# Altium footprint library Real-Time Clocks (RTCs).PcbLib: 185 footprints (part 3 of 12)
Each footprint in its own frame and in the unit in brackets; x right, y up, seen from the top. Pads: shape width x height; smd on the part's side, far side on the other; paste and mask are expansions set on the pad; w line width, h text height; cw(c..) or ccw(c..) is an arc to the next point about the centre after c.
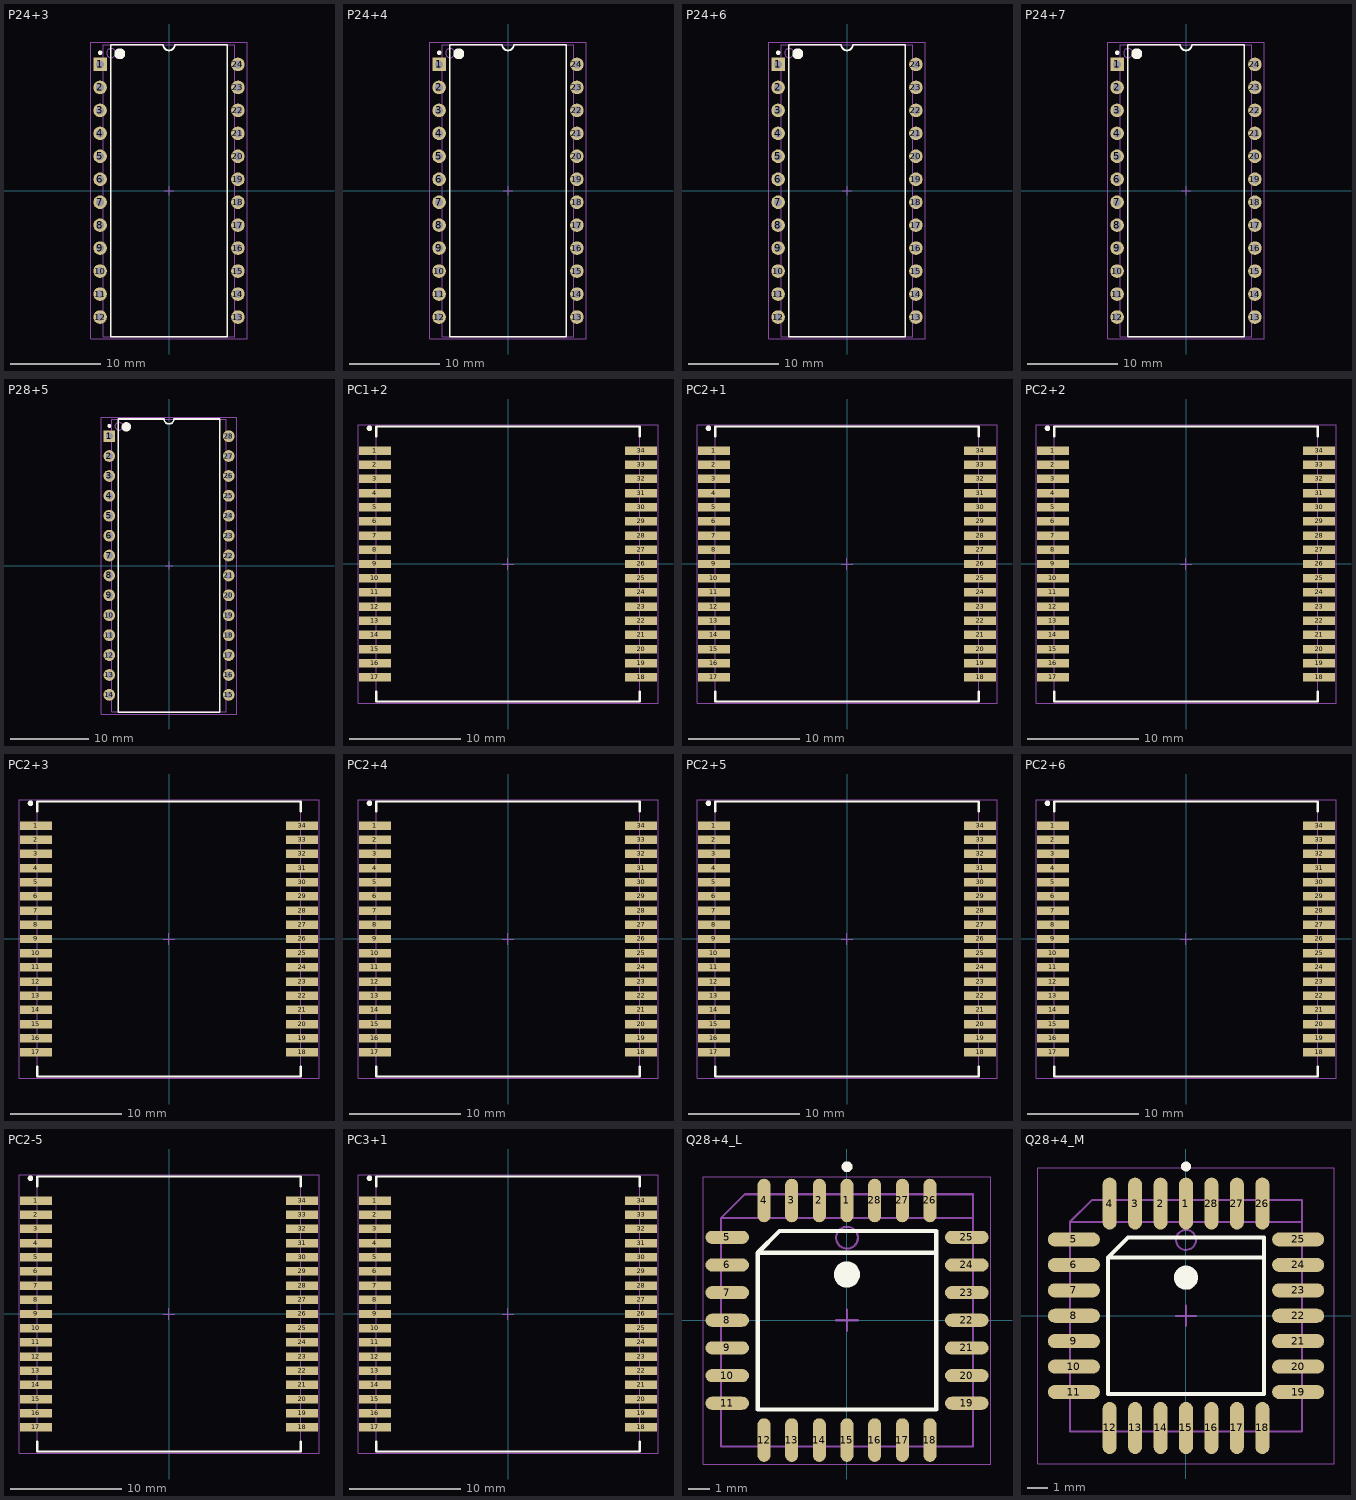
[diagram p2: the footprints below, top view; thin cyan lines are the x and y axes]

## P24+3 [mm] "DIP, 24-Leads, Row Spacing 15.24mm, Pitch 2.54mm, Body 31.8x14mm"
height 5.08
pads (24):
  rect 1.5x1.5 hole 0.9: 1(-7.62,13.97)
  round 1.5 hole 0.9: 2(-7.62,11.43) 3(-7.62,8.89) 4(-7.62,6.35) 5(-7.62,3.81) 6(-7.62,1.27) 7(-7.62,-1.27) 8(-7.62,-3.81) 9(-7.62,-6.35) 10(-7.62,-8.89) 11(-7.62,-11.43) 12(-7.62,-13.97) 13(7.62,-13.97) 14(7.62,-11.43) 15(7.62,-8.89) 16(7.62,-6.35) 17(7.62,-3.81) 18(7.62,-1.27) 19(7.62,1.27) 20(7.62,3.81) 21(7.62,6.35) 22(7.62,8.89) 23(7.62,11.43) 24(7.62,13.97)
Top Overlay:
  circle w0.25: c-7.62,15.27 r0.125
  circle w0.6: c-5.45,15.15 r0.3
  lines w0.2: -6.45,-16.15 -6.45,16.15 -0.635,16.15 ccw(c0,16.15) 0.635,16.15 6.45,16.15 6.45,-16.15 -6.45,-16.15
Mechanical 13:
  circle w0.1: c-6.4,15.225 r0.5
  lines w0.1: -7.3,-16.125 -7.3,16.125 7.3,16.125 7.3,-16.125 -7.3,-16.125
Mechanical 15:
  lines w0.05: -8.65,-16.4 -8.65,16.4 8.65,16.4 8.65,-16.4 -8.65,-16.4
  lines w0.1: -0.5,0 0.5,0 ; 0,-0.5 0,0.5
3D body: height 5.08, standoff 0.39, extent -7.3,-16.125 7.3,16.125

## P24+4 [mm] "DIP, 24-Leads, Row Spacing 15.24mm, Pitch 2.54mm, Body 31.8x14mm"
height 5.08
pads (24):
  rect 1.5x1.5 hole 0.9: 1(-7.62,13.97)
  round 1.5 hole 0.9: 2(-7.62,11.43) 3(-7.62,8.89) 4(-7.62,6.35) 5(-7.62,3.81) 6(-7.62,1.27) 7(-7.62,-1.27) 8(-7.62,-3.81) 9(-7.62,-6.35) 10(-7.62,-8.89) 11(-7.62,-11.43) 12(-7.62,-13.97) 13(7.62,-13.97) 14(7.62,-11.43) 15(7.62,-8.89) 16(7.62,-6.35) 17(7.62,-3.81) 18(7.62,-1.27) 19(7.62,1.27) 20(7.62,3.81) 21(7.62,6.35) 22(7.62,8.89) 23(7.62,11.43) 24(7.62,13.97)
Top Overlay:
  circle w0.6: c-5.45,15.15 r0.3
  circle w0.25: c-7.62,15.27 r0.125
  lines w0.2: -6.45,-16.15 6.45,-16.15 6.45,16.15 0.635,16.15 cw(c0,16.15) -0.635,16.15 -6.45,16.15 -6.45,-16.15
Mechanical 13:
  circle w0.1: c-6.4,15.225 r0.5
  lines w0.1: -7.3,-16.125 7.3,-16.125 7.3,16.125 -7.3,16.125 -7.3,-16.125
Mechanical 15:
  lines w0.05: -8.65,-16.4 8.65,-16.4 8.65,16.4 -8.65,16.4 -8.65,-16.4
  lines w0.1: -0.5,0 0.5,0 ; 0,-0.5 0,0.5
3D body: height 5.08, standoff 0.39, extent -7.3,-16.125 7.3,16.125

## P24+6 [mm] "DIP, 24-Leads, Row Spacing 15.24mm, Pitch 2.54mm, Body 31.8x14mm"
height 5.08
pads (24):
  rect 1.5x1.5 hole 0.9: 1(-7.62,13.97)
  round 1.5 hole 0.9: 2(-7.62,11.43) 3(-7.62,8.89) 4(-7.62,6.35) 5(-7.62,3.81) 6(-7.62,1.27) 7(-7.62,-1.27) 8(-7.62,-3.81) 9(-7.62,-6.35) 10(-7.62,-8.89) 11(-7.62,-11.43) 12(-7.62,-13.97) 13(7.62,-13.97) 14(7.62,-11.43) 15(7.62,-8.89) 16(7.62,-6.35) 17(7.62,-3.81) 18(7.62,-1.27) 19(7.62,1.27) 20(7.62,3.81) 21(7.62,6.35) 22(7.62,8.89) 23(7.62,11.43) 24(7.62,13.97)
Top Overlay:
  circle w0.25: c-7.62,15.27 r0.125
  circle w0.6: c-5.45,15.15 r0.3
  lines w0.2: -6.45,-16.15 -6.45,16.15 -0.635,16.15 ccw(c0,16.15) 0.635,16.15 6.45,16.15 6.45,-16.15 -6.45,-16.15
Mechanical 13:
  circle w0.1: c-6.4,15.225 r0.5
  lines w0.1: -7.3,-16.125 -7.3,16.125 7.3,16.125 7.3,-16.125 -7.3,-16.125
Mechanical 15:
  lines w0.05: -8.65,-16.4 -8.65,16.4 8.65,16.4 8.65,-16.4 -8.65,-16.4
  lines w0.1: -0.5,0 0.5,0 ; 0,-0.5 0,0.5
3D body: height 5.08, standoff 0.39, extent -7.3,-16.125 7.3,16.125

## P24+7 [mm] "DIP, 24-Leads, Row Spacing 15.24mm, Pitch 2.54mm, Body 31.8x14mm"
height 5.08
pads (24):
  rect 1.5x1.5 hole 0.9: 1(-7.62,13.97)
  round 1.5 hole 0.9: 2(-7.62,11.43) 3(-7.62,8.89) 4(-7.62,6.35) 5(-7.62,3.81) 6(-7.62,1.27) 7(-7.62,-1.27) 8(-7.62,-3.81) 9(-7.62,-6.35) 10(-7.62,-8.89) 11(-7.62,-11.43) 12(-7.62,-13.97) 13(7.62,-13.97) 14(7.62,-11.43) 15(7.62,-8.89) 16(7.62,-6.35) 17(7.62,-3.81) 18(7.62,-1.27) 19(7.62,1.27) 20(7.62,3.81) 21(7.62,6.35) 22(7.62,8.89) 23(7.62,11.43) 24(7.62,13.97)
Top Overlay:
  circle w0.6: c-5.45,15.15 r0.3
  circle w0.25: c-7.62,15.27 r0.125
  lines w0.2: -6.45,-16.15 6.45,-16.15 6.45,16.15 0.635,16.15 cw(c0,16.15) -0.635,16.15 -6.45,16.15 -6.45,-16.15
Mechanical 13:
  circle w0.1: c-6.4,15.225 r0.5
  lines w0.1: -7.3,-16.125 7.3,-16.125 7.3,16.125 -7.3,16.125 -7.3,-16.125
Mechanical 15:
  lines w0.05: -8.65,-16.4 8.65,-16.4 8.65,16.4 -8.65,16.4 -8.65,-16.4
  lines w0.1: -0.5,0 0.5,0 ; 0,-0.5 0,0.5
3D body: height 5.08, standoff 0.39, extent -7.3,-16.125 7.3,16.125

## P28+5 [mm] "DIP, 28-Leads, Row Spacing 15.24mm, Pitch 2.54mm, Body 36.8x14mm"
height 5.08
pads (28):
  rect 1.5x1.5 hole 0.9: 1(-7.62,16.51)
  round 1.5 hole 0.9: 2(-7.62,13.97) 3(-7.62,11.43) 4(-7.62,8.89) 5(-7.62,6.35) 6(-7.62,3.81) 7(-7.62,1.27) 8(-7.62,-1.27) 9(-7.62,-3.81) 10(-7.62,-6.35) 11(-7.62,-8.89) 12(-7.62,-11.43) 13(-7.62,-13.97) 14(-7.62,-16.51) 15(7.62,-16.51) 16(7.62,-13.97) 17(7.62,-11.43) 18(7.62,-8.89) 19(7.62,-6.35) 20(7.62,-3.81) 21(7.62,-1.27) 22(7.62,1.27) 23(7.62,3.81) 24(7.62,6.35) 25(7.62,8.89) 26(7.62,11.43) 27(7.62,13.97) 28(7.62,16.51)
Top Overlay:
  circle w0.6: c-5.45,17.7 r0.3
  circle w0.25: c-7.62,17.81 r0.125
  lines w0.2: -6.45,-18.7 6.45,-18.7 6.45,18.7 0.635,18.7 cw(c0,18.7) -0.635,18.7 -6.45,18.7 -6.45,-18.7
Mechanical 13:
  circle w0.1: c-6.4,17.775 r0.5
  lines w0.1: -7.3,-18.675 7.3,-18.675 7.3,18.675 -7.3,18.675 -7.3,-18.675
Mechanical 15:
  lines w0.05: -8.65,-18.95 8.65,-18.95 8.65,18.95 -8.65,18.95 -8.65,-18.95
  lines w0.1: -0.5,0 0.5,0 ; 0,-0.5 0,0.5
3D body: height 5.08, standoff 0.39, extent -7.3,-18.675 7.3,18.675

## PC1+2 [mm] "PowerCap Module with Cap, 34-Leads, Body 24.7 x.25.3mm, Pitch 1.27mm"
height 6.86
pads (34):
  rect 2.84x0.76 smd: 1(-11.915,10.16) 2(-11.915,8.89) 3(-11.915,7.62) 4(-11.915,6.35) 5(-11.915,5.08) 6(-11.915,3.81) 7(-11.915,2.54) 8(-11.915,1.27) 9(-11.915,0) 10(-11.915,-1.27) 11(-11.915,-2.54) 12(-11.915,-3.81) 13(-11.915,-5.08) 14(-11.915,-6.35) 15(-11.915,-7.62) 16(-11.915,-8.89) 17(-11.915,-10.16) 18(11.915,-10.16) 19(11.915,-8.89) 20(11.915,-7.62) 21(11.915,-6.35) 22(11.915,-5.08) 23(11.915,-3.81) 24(11.915,-2.54) 25(11.915,-1.27) 26(11.915,0) 27(11.915,1.27) 28(11.915,2.54) 29(11.915,3.81) 30(11.915,5.08) 31(11.915,6.35) 32(11.915,7.62) 33(11.915,8.89) 34(11.915,10.16)
Top Overlay:
  circle w0.25: c-12.41,12.16 r0.125
  lines w0.2: -11.8,-11.45 -11.8,-12.31 11.8,-12.31 11.8,-11.45 ; -11.8,11.45 -11.8,12.31 11.8,12.31 11.8,11.45
Mechanical 13:
  lines w0.1: -11.81,-12.32 11.81,-12.32 ; -11.81,-12.32 -11.81,12.32 11.81,12.32 11.81,-12.32 ; -11.81,-12.32 11.81,-12.32
Mechanical 15:
  lines w0.05: -13.435,-12.46 13.435,-12.46 13.435,12.46 -13.435,12.46 -13.435,-12.46
  lines w0.1: -0.5,0 0.5,0 ; 0,-0.5 0,0.5
3D body: height 6.86, standoff 0, extent -11.809,-12.319 11.809,12.319

## PC2+1 [mm] "PowerCap Module with Cap, 34-Leads, Body 24.7 x.25.3mm, Pitch 1.27mm"
height 6.86
pads (34):
  rect 2.84x0.76 smd: 1(-11.915,10.16) 2(-11.915,8.89) 3(-11.915,7.62) 4(-11.915,6.35) 5(-11.915,5.08) 6(-11.915,3.81) 7(-11.915,2.54) 8(-11.915,1.27) 9(-11.915,0) 10(-11.915,-1.27) 11(-11.915,-2.54) 12(-11.915,-3.81) 13(-11.915,-5.08) 14(-11.915,-6.35) 15(-11.915,-7.62) 16(-11.915,-8.89) 17(-11.915,-10.16) 18(11.915,-10.16) 19(11.915,-8.89) 20(11.915,-7.62) 21(11.915,-6.35) 22(11.915,-5.08) 23(11.915,-3.81) 24(11.915,-2.54) 25(11.915,-1.27) 26(11.915,0) 27(11.915,1.27) 28(11.915,2.54) 29(11.915,3.81) 30(11.915,5.08) 31(11.915,6.35) 32(11.915,7.62) 33(11.915,8.89) 34(11.915,10.16)
Top Overlay:
  circle w0.25: c-12.41,12.16 r0.125
  lines w0.2: -11.8,-11.45 -11.8,-12.31 11.8,-12.31 11.8,-11.45 ; -11.8,11.45 -11.8,12.31 11.8,12.31 11.8,11.45
Mechanical 13:
  lines w0.1: -11.81,-12.32 11.81,-12.32 ; -11.81,-12.32 -11.81,12.32 11.81,12.32 11.81,-12.32 ; -11.81,-12.32 11.81,-12.32
Mechanical 15:
  lines w0.05: -13.435,-12.46 13.435,-12.46 13.435,12.46 -13.435,12.46 -13.435,-12.46
  lines w0.1: -0.5,0 0.5,0 ; 0,-0.5 0,0.5
3D body: height 6.86, standoff 0, extent -11.809,-12.319 11.809,12.319

## PC2+2 [mm] "PowerCap Module with Cap, 34-Leads, Body 24.7 x.25.3mm, Pitch 1.27mm"
height 6.86
pads (34):
  rect 2.84x0.76 smd: 1(-11.915,10.16) 2(-11.915,8.89) 3(-11.915,7.62) 4(-11.915,6.35) 5(-11.915,5.08) 6(-11.915,3.81) 7(-11.915,2.54) 8(-11.915,1.27) 9(-11.915,0) 10(-11.915,-1.27) 11(-11.915,-2.54) 12(-11.915,-3.81) 13(-11.915,-5.08) 14(-11.915,-6.35) 15(-11.915,-7.62) 16(-11.915,-8.89) 17(-11.915,-10.16) 18(11.915,-10.16) 19(11.915,-8.89) 20(11.915,-7.62) 21(11.915,-6.35) 22(11.915,-5.08) 23(11.915,-3.81) 24(11.915,-2.54) 25(11.915,-1.27) 26(11.915,0) 27(11.915,1.27) 28(11.915,2.54) 29(11.915,3.81) 30(11.915,5.08) 31(11.915,6.35) 32(11.915,7.62) 33(11.915,8.89) 34(11.915,10.16)
Top Overlay:
  circle w0.25: c-12.41,12.16 r0.125
  lines w0.2: -11.8,-11.45 -11.8,-12.31 11.8,-12.31 11.8,-11.45 ; -11.8,11.45 -11.8,12.31 11.8,12.31 11.8,11.45
Mechanical 13:
  lines w0.1: -11.81,-12.32 11.81,-12.32 ; -11.81,-12.32 -11.81,12.32 11.81,12.32 11.81,-12.32 ; -11.81,-12.32 11.81,-12.32
Mechanical 15:
  lines w0.05: -13.435,-12.46 13.435,-12.46 13.435,12.46 -13.435,12.46 -13.435,-12.46
  lines w0.1: -0.5,0 0.5,0 ; 0,-0.5 0,0.5
3D body: height 6.86, standoff 0, extent -11.809,-12.319 11.809,12.319

## PC2+3 [mm] "PowerCap Module with Cap, 34-Leads, Body 24.7 x.25.3mm, Pitch 1.27mm"
height 6.86
pads (34):
  rect 2.84x0.76 smd: 1(-11.915,10.16) 2(-11.915,8.89) 3(-11.915,7.62) 4(-11.915,6.35) 5(-11.915,5.08) 6(-11.915,3.81) 7(-11.915,2.54) 8(-11.915,1.27) 9(-11.915,0) 10(-11.915,-1.27) 11(-11.915,-2.54) 12(-11.915,-3.81) 13(-11.915,-5.08) 14(-11.915,-6.35) 15(-11.915,-7.62) 16(-11.915,-8.89) 17(-11.915,-10.16) 18(11.915,-10.16) 19(11.915,-8.89) 20(11.915,-7.62) 21(11.915,-6.35) 22(11.915,-5.08) 23(11.915,-3.81) 24(11.915,-2.54) 25(11.915,-1.27) 26(11.915,0) 27(11.915,1.27) 28(11.915,2.54) 29(11.915,3.81) 30(11.915,5.08) 31(11.915,6.35) 32(11.915,7.62) 33(11.915,8.89) 34(11.915,10.16)
Top Overlay:
  circle w0.25: c-12.41,12.16 r0.125
  lines w0.2: -11.8,-11.45 -11.8,-12.31 11.8,-12.31 11.8,-11.45 ; -11.8,11.45 -11.8,12.31 11.8,12.31 11.8,11.45
Mechanical 13:
  lines w0.1: -11.81,-12.32 11.81,-12.32 ; -11.81,-12.32 -11.81,12.32 11.81,12.32 11.81,-12.32 ; -11.81,-12.32 11.81,-12.32
Mechanical 15:
  lines w0.05: -13.435,-12.46 13.435,-12.46 13.435,12.46 -13.435,12.46 -13.435,-12.46
  lines w0.1: -0.5,0 0.5,0 ; 0,-0.5 0,0.5
3D body: height 6.86, standoff 0, extent -11.809,-12.319 11.809,12.319

## PC2+4 [mm] "PowerCap Module with Cap, 34-Leads, Body 24.7 x.25.3mm, Pitch 1.27mm"
height 6.86
pads (34):
  rect 2.84x0.76 smd: 1(-11.915,10.16) 2(-11.915,8.89) 3(-11.915,7.62) 4(-11.915,6.35) 5(-11.915,5.08) 6(-11.915,3.81) 7(-11.915,2.54) 8(-11.915,1.27) 9(-11.915,0) 10(-11.915,-1.27) 11(-11.915,-2.54) 12(-11.915,-3.81) 13(-11.915,-5.08) 14(-11.915,-6.35) 15(-11.915,-7.62) 16(-11.915,-8.89) 17(-11.915,-10.16) 18(11.915,-10.16) 19(11.915,-8.89) 20(11.915,-7.62) 21(11.915,-6.35) 22(11.915,-5.08) 23(11.915,-3.81) 24(11.915,-2.54) 25(11.915,-1.27) 26(11.915,0) 27(11.915,1.27) 28(11.915,2.54) 29(11.915,3.81) 30(11.915,5.08) 31(11.915,6.35) 32(11.915,7.62) 33(11.915,8.89) 34(11.915,10.16)
Top Overlay:
  circle w0.25: c-12.41,12.16 r0.125
  lines w0.2: -11.8,-11.45 -11.8,-12.31 11.8,-12.31 11.8,-11.45 ; -11.8,11.45 -11.8,12.31 11.8,12.31 11.8,11.45
Mechanical 13:
  lines w0.1: -11.81,-12.32 11.81,-12.32 ; -11.81,-12.32 -11.81,12.32 11.81,12.32 11.81,-12.32 ; -11.81,-12.32 11.81,-12.32
Mechanical 15:
  lines w0.05: -13.435,-12.46 13.435,-12.46 13.435,12.46 -13.435,12.46 -13.435,-12.46
  lines w0.1: -0.5,0 0.5,0 ; 0,-0.5 0,0.5
3D body: height 6.86, standoff 0, extent -11.809,-12.319 11.809,12.319

## PC2+5 [mm] "PowerCap Module with Cap, 34-Leads, Body 24.7 x.25.3mm, Pitch 1.27mm"
height 6.86
pads (34):
  rect 2.84x0.76 smd: 1(-11.915,10.16) 2(-11.915,8.89) 3(-11.915,7.62) 4(-11.915,6.35) 5(-11.915,5.08) 6(-11.915,3.81) 7(-11.915,2.54) 8(-11.915,1.27) 9(-11.915,0) 10(-11.915,-1.27) 11(-11.915,-2.54) 12(-11.915,-3.81) 13(-11.915,-5.08) 14(-11.915,-6.35) 15(-11.915,-7.62) 16(-11.915,-8.89) 17(-11.915,-10.16) 18(11.915,-10.16) 19(11.915,-8.89) 20(11.915,-7.62) 21(11.915,-6.35) 22(11.915,-5.08) 23(11.915,-3.81) 24(11.915,-2.54) 25(11.915,-1.27) 26(11.915,0) 27(11.915,1.27) 28(11.915,2.54) 29(11.915,3.81) 30(11.915,5.08) 31(11.915,6.35) 32(11.915,7.62) 33(11.915,8.89) 34(11.915,10.16)
Top Overlay:
  circle w0.25: c-12.41,12.16 r0.125
  lines w0.2: -11.8,-11.45 -11.8,-12.31 11.8,-12.31 11.8,-11.45 ; -11.8,11.45 -11.8,12.31 11.8,12.31 11.8,11.45
Mechanical 13:
  lines w0.1: -11.81,-12.32 11.81,-12.32 ; -11.81,-12.32 -11.81,12.32 11.81,12.32 11.81,-12.32 ; -11.81,-12.32 11.81,-12.32
Mechanical 15:
  lines w0.05: -13.435,-12.46 13.435,-12.46 13.435,12.46 -13.435,12.46 -13.435,-12.46
  lines w0.1: -0.5,0 0.5,0 ; 0,-0.5 0,0.5
3D body: height 6.86, standoff 0, extent -11.809,-12.319 11.809,12.319

## PC2+6 [mm] "PowerCap Module with Cap, 34-Leads, Body 24.7 x.25.3mm, Pitch 1.27mm"
height 6.86
pads (34):
  rect 2.84x0.76 smd: 1(-11.915,10.16) 2(-11.915,8.89) 3(-11.915,7.62) 4(-11.915,6.35) 5(-11.915,5.08) 6(-11.915,3.81) 7(-11.915,2.54) 8(-11.915,1.27) 9(-11.915,0) 10(-11.915,-1.27) 11(-11.915,-2.54) 12(-11.915,-3.81) 13(-11.915,-5.08) 14(-11.915,-6.35) 15(-11.915,-7.62) 16(-11.915,-8.89) 17(-11.915,-10.16) 18(11.915,-10.16) 19(11.915,-8.89) 20(11.915,-7.62) 21(11.915,-6.35) 22(11.915,-5.08) 23(11.915,-3.81) 24(11.915,-2.54) 25(11.915,-1.27) 26(11.915,0) 27(11.915,1.27) 28(11.915,2.54) 29(11.915,3.81) 30(11.915,5.08) 31(11.915,6.35) 32(11.915,7.62) 33(11.915,8.89) 34(11.915,10.16)
Top Overlay:
  circle w0.25: c-12.41,12.16 r0.125
  lines w0.2: -11.8,-11.45 -11.8,-12.31 11.8,-12.31 11.8,-11.45 ; -11.8,11.45 -11.8,12.31 11.8,12.31 11.8,11.45
Mechanical 13:
  lines w0.1: -11.81,-12.32 11.81,-12.32 ; -11.81,-12.32 -11.81,12.32 11.81,12.32 11.81,-12.32 ; -11.81,-12.32 11.81,-12.32
Mechanical 15:
  lines w0.05: -13.435,-12.46 13.435,-12.46 13.435,12.46 -13.435,12.46 -13.435,-12.46
  lines w0.1: -0.5,0 0.5,0 ; 0,-0.5 0,0.5
3D body: height 6.86, standoff 0, extent -11.809,-12.319 11.809,12.319

## PC2-5 [mm] "PowerCap Module with Cap, 34-Leads, Body 24.7 x.25.3mm, Pitch 1.27mm"
height 6.86
pads (34):
  rect 2.84x0.76 smd: 1(-11.915,10.16) 2(-11.915,8.89) 3(-11.915,7.62) 4(-11.915,6.35) 5(-11.915,5.08) 6(-11.915,3.81) 7(-11.915,2.54) 8(-11.915,1.27) 9(-11.915,0) 10(-11.915,-1.27) 11(-11.915,-2.54) 12(-11.915,-3.81) 13(-11.915,-5.08) 14(-11.915,-6.35) 15(-11.915,-7.62) 16(-11.915,-8.89) 17(-11.915,-10.16) 18(11.915,-10.16) 19(11.915,-8.89) 20(11.915,-7.62) 21(11.915,-6.35) 22(11.915,-5.08) 23(11.915,-3.81) 24(11.915,-2.54) 25(11.915,-1.27) 26(11.915,0) 27(11.915,1.27) 28(11.915,2.54) 29(11.915,3.81) 30(11.915,5.08) 31(11.915,6.35) 32(11.915,7.62) 33(11.915,8.89) 34(11.915,10.16)
Top Overlay:
  circle w0.25: c-12.41,12.16 r0.125
  lines w0.2: -11.8,-11.45 -11.8,-12.31 11.8,-12.31 11.8,-11.45 ; -11.8,11.45 -11.8,12.31 11.8,12.31 11.8,11.45
Mechanical 13:
  lines w0.1: -11.81,-12.32 11.81,-12.32 ; -11.81,-12.32 -11.81,12.32 11.81,12.32 11.81,-12.32 ; -11.81,-12.32 11.81,-12.32
Mechanical 15:
  lines w0.05: -13.435,-12.46 13.435,-12.46 13.435,12.46 -13.435,12.46 -13.435,-12.46
  lines w0.1: -0.5,0 0.5,0 ; 0,-0.5 0,0.5
3D body: height 6.86, standoff 0, extent -11.809,-12.319 11.809,12.319

## PC3+1 [mm] "PowerCap Module with Cap, 34-Leads, Body 24.7 x.25.3mm, Pitch 1.27mm"
height 6.86
pads (34):
  rect 2.84x0.76 smd: 1(-11.915,10.16) 2(-11.915,8.89) 3(-11.915,7.62) 4(-11.915,6.35) 5(-11.915,5.08) 6(-11.915,3.81) 7(-11.915,2.54) 8(-11.915,1.27) 9(-11.915,0) 10(-11.915,-1.27) 11(-11.915,-2.54) 12(-11.915,-3.81) 13(-11.915,-5.08) 14(-11.915,-6.35) 15(-11.915,-7.62) 16(-11.915,-8.89) 17(-11.915,-10.16) 18(11.915,-10.16) 19(11.915,-8.89) 20(11.915,-7.62) 21(11.915,-6.35) 22(11.915,-5.08) 23(11.915,-3.81) 24(11.915,-2.54) 25(11.915,-1.27) 26(11.915,0) 27(11.915,1.27) 28(11.915,2.54) 29(11.915,3.81) 30(11.915,5.08) 31(11.915,6.35) 32(11.915,7.62) 33(11.915,8.89) 34(11.915,10.16)
Top Overlay:
  circle w0.25: c-12.41,12.16 r0.125
  lines w0.2: -11.8,-11.45 -11.8,-12.31 11.8,-12.31 11.8,-11.45 ; -11.8,11.45 -11.8,12.31 11.8,12.31 11.8,11.45
Mechanical 13:
  lines w0.1: -11.81,-12.32 11.81,-12.32 ; -11.81,-12.32 -11.81,12.32 11.81,12.32 11.81,-12.32 ; -11.81,-12.32 11.81,-12.32
Mechanical 15:
  lines w0.05: -13.435,-12.46 13.435,-12.46 13.435,12.46 -13.435,12.46 -13.435,-12.46
  lines w0.1: -0.5,0 0.5,0 ; 0,-0.5 0,0.5
3D body: height 6.86, standoff 0, extent -11.809,-12.319 11.809,12.319

## Q28+4_L [mm] "Leaded Chip Carrier, 28-Leads, Body 11.5x11.5mm, Pitch 1.27mm, IPC High Density"
height 4.57
pads (28):
  oval 0.6x2 smd: 1(0,5.5) 2(-1.27,5.5) 3(-2.54,5.5) 4(-3.81,5.5) 12(-3.81,-5.5) 13(-2.54,-5.5) 14(-1.27,-5.5) 15(0,-5.5) 16(1.27,-5.5) 17(2.54,-5.5) 18(3.81,-5.5) 26(3.81,5.5) 27(2.54,5.5) 28(1.27,5.5)
  oval 2x0.6 smd: 5(-5.5,3.81) 6(-5.5,2.54) 7(-5.5,1.27) 8(-5.5,0) 9(-5.5,-1.27) 10(-5.5,-2.54) 11(-5.5,-3.81) 19(5.5,-3.81) 20(5.5,-2.54) 21(5.5,-1.27) 22(5.5,0) 23(5.5,1.27) 24(5.5,2.54) 25(5.5,3.81)
Top Overlay:
  circle w0.6: c0,2.1 r0.3
  circle w0.25: c0,7.05 r0.125
  lines w0.2: 4.1,3.1 -4.1,3.1 ; -4.1,3.1 -4.1,-4.1 4.1,-4.1 4.1,4.1 -3.1,4.1 -4.1,3.1
Mechanical 13:
  circle w0.1: c0,3.79 r0.5
  lines w0.1: 5.79,4.69 -5.79,4.69 ; -5.79,4.69 -4.69,5.79 5.79,5.79 5.79,-5.79 -5.79,-5.79 -5.79,4.69
Mechanical 15:
  lines w0.05: -6.6,-6.6 6.6,-6.6 6.6,6.6 -6.6,6.6 -6.6,-6.6
  lines w0.1: -0.5,0 0.5,0 ; 0,-0.5 0,0.5
3D body: height 4.57, standoff 0.51, extent -5.79,-5.79 5.79,5.79

## Q28+4_M [mm] "Leaded Chip Carrier, 28-Leads, Body 11.5x11.5mm, Pitch 1.27mm, IPC Low Density"
height 4.57
pads (28):
  oval 0.7x2.6 smd: 1(0,5.6) 2(-1.27,5.6) 3(-2.54,5.6) 4(-3.81,5.6) 12(-3.81,-5.6) 13(-2.54,-5.6) 14(-1.27,-5.6) 15(0,-5.6) 16(1.27,-5.6) 17(2.54,-5.6) 18(3.81,-5.6) 26(3.81,5.6) 27(2.54,5.6) 28(1.27,5.6)
  oval 2.6x0.7 smd: 5(-5.6,3.81) 6(-5.6,2.54) 7(-5.6,1.27) 8(-5.6,0) 9(-5.6,-1.27) 10(-5.6,-2.54) 11(-5.6,-3.81) 19(5.6,-3.81) 20(5.6,-2.54) 21(5.6,-1.27) 22(5.6,0) 23(5.6,1.27) 24(5.6,2.54) 25(5.6,3.81)
Top Overlay:
  circle w0.25: c0,7.45 r0.125
  circle w0.6: c0,1.9 r0.3
  lines w0.2: 3.9,2.9 -3.9,2.9 ; -3.9,2.9 -2.9,3.9 3.9,3.9 3.9,-3.9 -3.9,-3.9 -3.9,2.9
Mechanical 13:
  circle w0.1: c0,3.79 r0.5
  lines w0.1: 5.79,4.69 -5.79,4.69 ; -5.79,4.69 -5.79,-5.79 5.79,-5.79 5.79,5.79 -4.69,5.79 -5.79,4.69
Mechanical 15:
  lines w0.05: -7.4,-7.4 -7.4,7.4 7.4,7.4 7.4,-7.4 -7.4,-7.4
  lines w0.1: -0.5,0 0.5,0 ; 0,-0.5 0,0.5
3D body: height 4.57, standoff 0.51, extent -5.79,-5.79 5.79,5.79